# Altium integrated library Lattice MachXO.IntLib: 790 symbols (part 48 of 50)
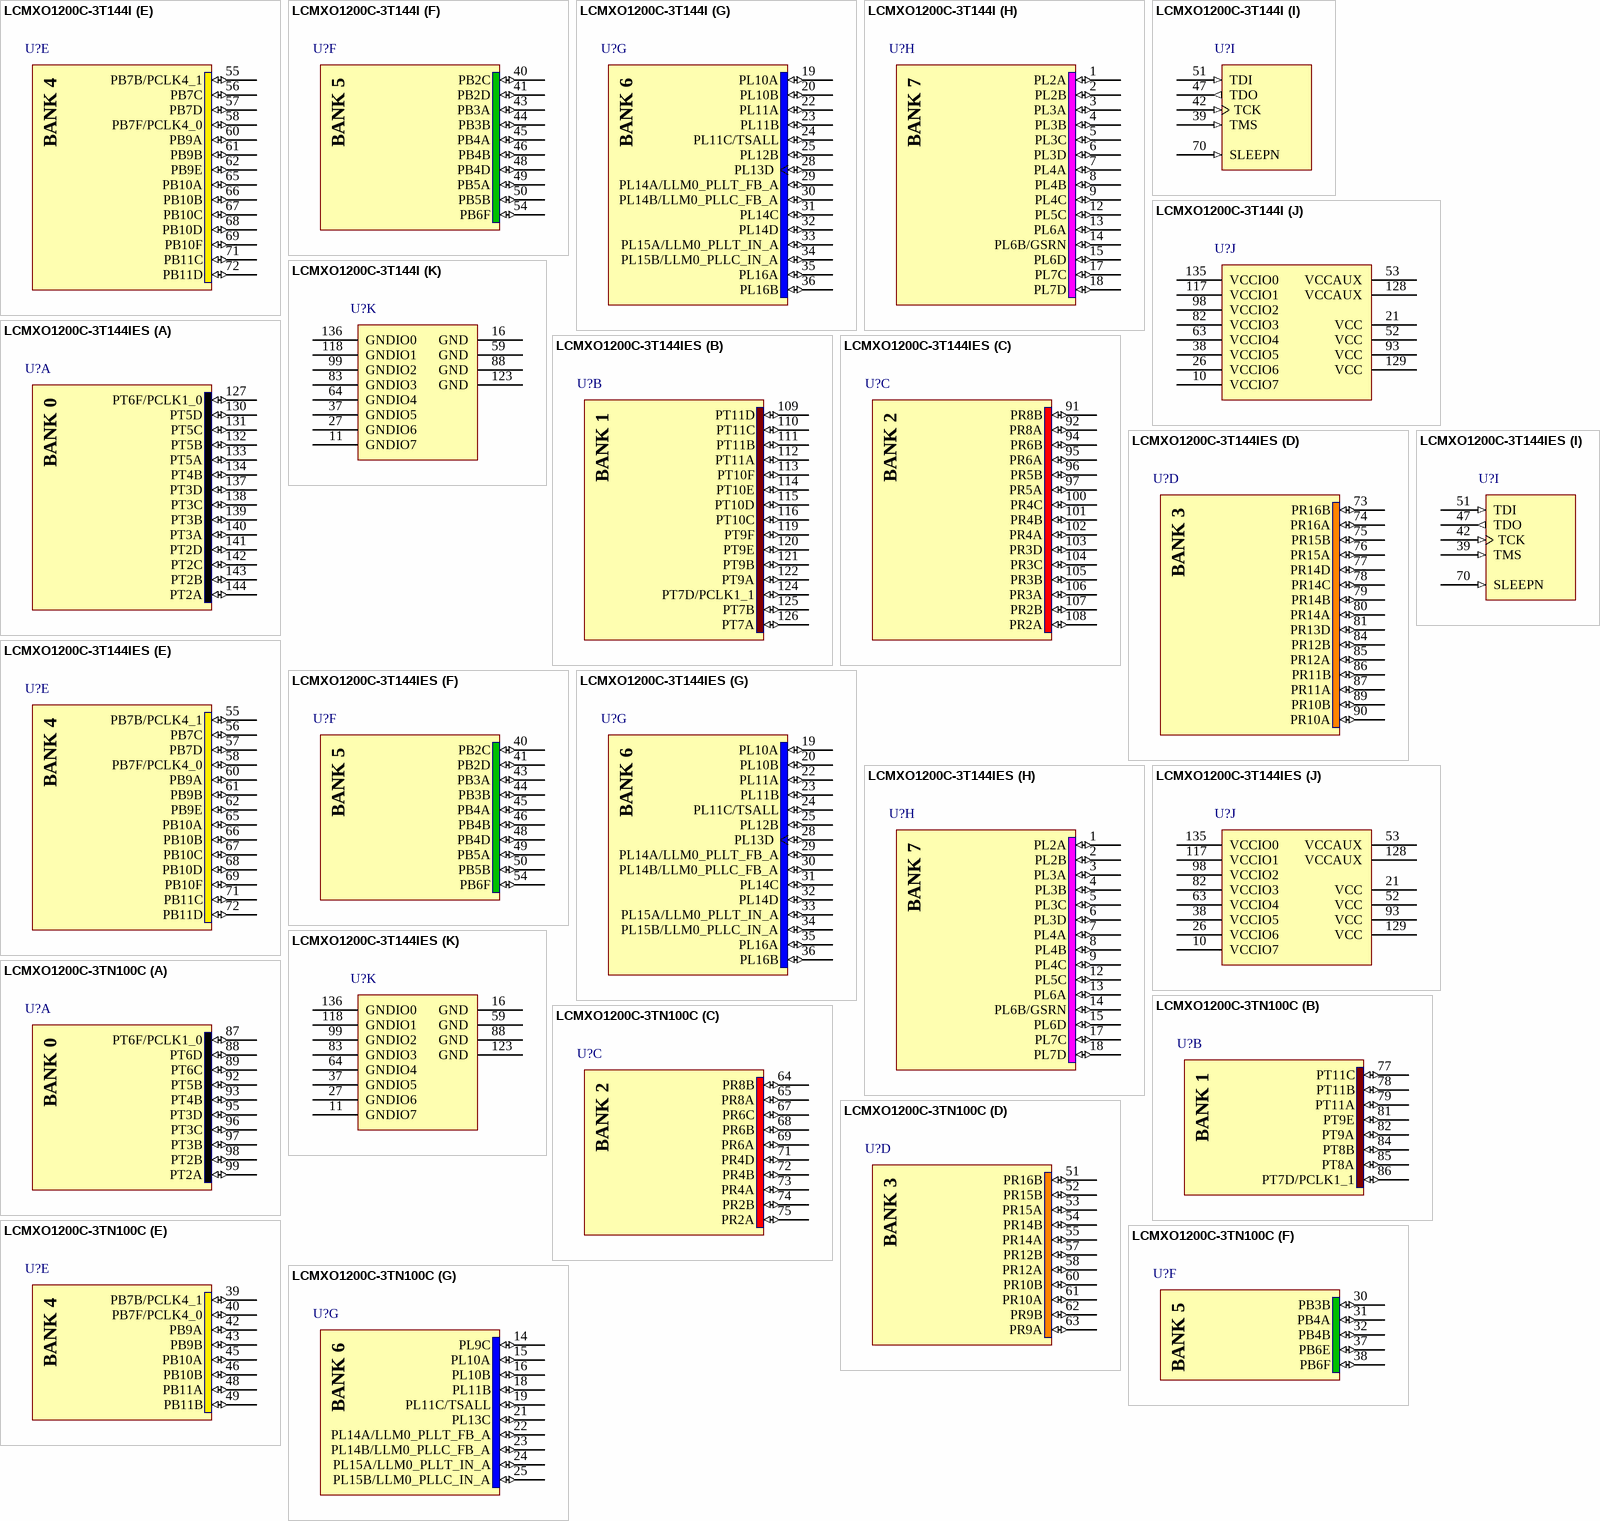
[diagram p486: symbols LCMXO1200C-3T144I to LCMXO1200C-3TN100C]

## LCMXO1200C-3T144IES
designator U?
MachXO 1200 Crossover PLD, 1.8V/2.5V/3.3V, 113 User I/Os, 144-Pins TQFP, Speed Grade-3, Industrial Grade, Engineering Sample; Published: 31-Jul-2006; DatasheetVersion: ver2.1, May-2006; PackageVersion: pkg_33, Apr-2006; PackageReference: TQFP144; Publisher: Altium Limited; PackageDescription: 144-Pin Thin Quad Flat Pack (TQFP144); Code_JEDEC: MS-026-BFB; ComponentLink1Description: Manufacturer Link; ComponentLink1URL: http://www.latticesemi.com/products/cpld/machXO/index.cfm; ComponentLink2Description: Datasheet; ComponentLink2URL: http://www.latticesemi.com/lit/docs/datasheets/cpld/machxo.pdf
footprint TQFP144_N (Thin QFP, 144-Leads, Body 20x20mm, Pitch 0.5mm, IPC Medium Density)
footprint TQFP144_L (Thin QFP, 144-Leads, Body 20x20mm, Pitch 0.5mm, IPC High Density)
footprint TQFP144_M (Thin QFP, 144-Leads, Body 20x20mm, Pitch 0.5mm, IPC Low Density)
3D model MachXO1200-TQFP144 (144-Pin Thin Quad Flat Pack (TQFP144))
signal-integrity model LCMXO1200C_T144 (MachXO)
part A pins: 127 PT6F/PCLK1_0 (io), 130 PT5D (io), 131 PT5C (io), 132 PT5B (io), 133 PT5A (io), 134 PT4B (io), 137 PT3D (io), 138 PT3C (io), 139 PT3B (io), 140 PT3A (io), 141 PT2D (io), 142 PT2C (io), 143 PT2B (io), 144 PT2A (io)
part B pins: 109 PT11D (io), 110 PT11C (io), 111 PT11B (io), 112 PT11A (io), 113 PT10F (io), 114 PT10E (io), 115 PT10D (io), 116 PT10C (io), 119 PT9F (io), 120 PT9E (io), 121 PT9B (io), 122 PT9A (io), 124 PT7D/PCLK1_1 (io), 125 PT7B (io), 126 PT7A (io)
part C pins: 91 PR8B (io), 92 PR8A (io), 94 PR6B (io), 95 PR6A (io), 96 PR5B (io), 97 PR5A (io), 100 PR4C (io), 101 PR4B (io), 102 PR4A (io), 103 PR3D (io), 104 PR3C (io), 105 PR3B (io), 106 PR3A (io), 107 PR2B (io), 108 PR2A (io)
part D pins: 73 PR16B (io), 74 PR16A (io), 75 PR15B (io), 76 PR15A (io), 77 PR14D (io), 78 PR14C (io), 79 PR14B (io), 80 PR14A (io), 81 PR13D (io), 84 PR12B (io), 85 PR12A (io), 86 PR11B (io), 87 PR11A (io), 89 PR10B (io), 90 PR10A (io)
part E pins: 55 PB7B/PCLK4_1 (io), 56 PB7C (io), 57 PB7D (io), 58 PB7F/PCLK4_0 (io), 60 PB9A (io), 61 PB9B (io), 62 PB9E (io), 65 PB10A (io), 66 PB10B (io), 67 PB10C (io), 68 PB10D (io), 69 PB10F (io), 71 PB11C (io), 72 PB11D (io)
part F pins: 40 PB2C (io), 41 PB2D (io), 43 PB3A (io), 44 PB3B (io), 45 PB4A (io), 46 PB4B (io), 48 PB4D (io), 49 PB5A (io), 50 PB5B (io), 54 PB6F (io)
part G pins: 19 PL10A (io), 20 PL10B (io), 22 PL11A (io), 23 PL11B (io), 24 PL11C/TSALL (io), 25 PL12B (io), 28 PL13D (io), 29 PL14A/LLM0_PLLT_FB_A (io), 30 PL14B/LLM0_PLLC_FB_A (io), 31 PL14C (io), 32 PL14D (io), 33 PL15A/LLM0_PLLT_IN_A (io), 34 PL15B/LLM0_PLLC_IN_A (io), 35 PL16A (io), 36 PL16B (io)
part H pins: 1 PL2A (io), 2 PL2B (io), 3 PL3A (io), 4 PL3B (io), 5 PL3C (io), 6 PL3D (io), 7 PL4A (io), 8 PL4B (io), 9 PL4C (io), 12 PL5C (io), 13 PL6A (io), 14 PL6B/GSRN (io), 15 PL6D (io), 17 PL7C (io), 18 PL7D (io)
part I pins: 39 TMS (in) "Powered by VCCIO5", 42 TCK (in) "Powered by VCCIO5", 47 TDO (out) "Powered by VCCIO5", 51 TDI (in) "Powered by VCCIO5", 70 SLEEPN (in) "Powered by VCCIO4"
part J pins: 10 VCCIO7 (power), 21 VCC (power), 26 VCCIO6 (power), 38 VCCIO5 (power), 52 VCC (power), 53 VCCAUX (power), 63 VCCIO4 (power), 82 VCCIO3 (power), 93 VCC (power), 98 VCCIO2 (power), 117 VCCIO1 (power), 128 VCCAUX (power), 129 VCC (power), 135 VCCIO0 (power)
part K pins: 11 GNDIO7 (power), 16 GND (power), 27 GNDIO6 (power), 37 GNDIO5 (power), 59 GND (power), 64 GNDIO4 (power), 83 GNDIO3 (power), 88 GND (power), 99 GNDIO2 (power), 118 GNDIO1 (power), 123 GND (power), 136 GNDIO0 (power)
part A text: BANK 0
part B text: BANK 1
part C text: BANK 2
part D text: BANK 3
part E text: BANK 4
part F text: BANK 5
part G text: BANK 6
part H text: BANK 7

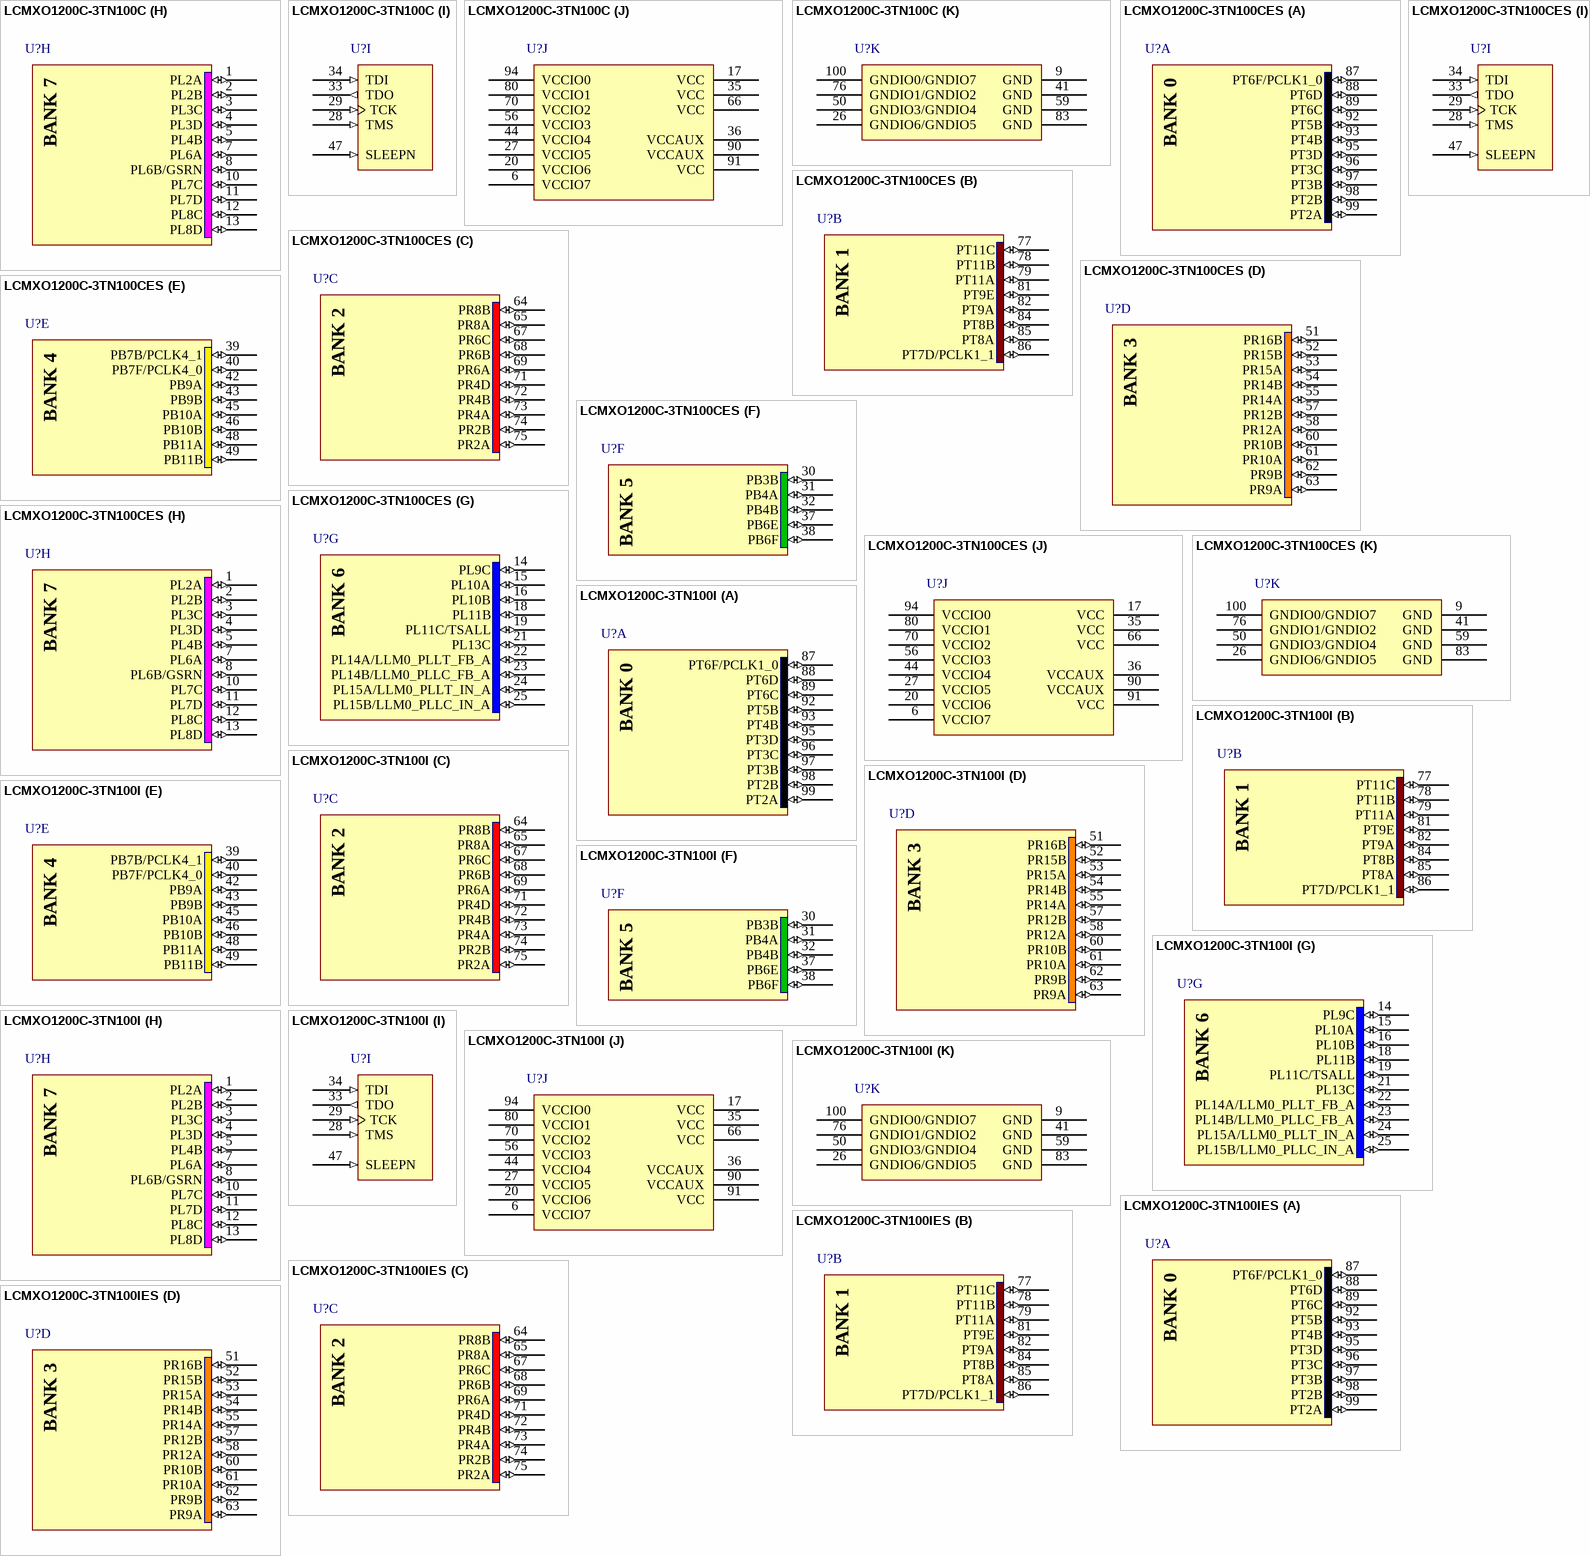
[diagram p151: symbols LCMXO1200C-3TN100C to LCMXO1200C-3TN100IES]

## LCMXO1200C-3TN100C
designator U?
MachXO 1200 Crossover PLD, 1.8V/2.5V/3.3V, 73 User I/Os, 100-Pins TQFP, Speed Grade-3, Commercial Grade, Pb-Free; Published: 13-Apr-2006; DatasheetVersion: ver2.2, Aug-2006; PackageVersion: pkg_33, Apr-2006; PackageReference: TQFP100; Publisher: Altium Limited; PackageDescription: 100-Pin Thin Quad Flat Pack (TQFP100); Code_JEDEC: MS-026-BED; ComponentLink1Description: Manufacturer Link; ComponentLink1URL: http://www.latticesemi.com/products/cpld/machXO/index.cfm; ComponentLink2Description: Datasheet; ComponentLink2URL: http://www.latticesemi.com/lit/docs/datasheets/cpld/DS1002_machxo.pdf
footprint TQFP100_N (Thin QFP, 100-Leads, Body 14x14mm, Pitch 0.5mm, IPC Medium Density)
footprint TQFP100_L (Thin QFP, 100-Leads, Body 14x14mm, Pitch 0.5mm, IPC High Density)
footprint TQFP100_M (Thin QFP, 100-Leads, Body 14x14mm, Pitch 0.5mm, IPC Low Density)
3D model MachXO1200-TQFP100 (100-Pin Thin Quad Flat Pack (TQFP100))
signal-integrity model LCMXO1200C_T100 (MachXO)
part A pins: 87 PT6F/PCLK1_0 (io), 88 PT6D (io), 89 PT6C (io), 92 PT5B (io), 93 PT4B (io), 95 PT3D (io), 96 PT3C (io), 97 PT3B (io), 98 PT2B (io), 99 PT2A (io)
part B pins: 77 PT11C (io), 78 PT11B (io), 79 PT11A (io), 81 PT9E (io), 82 PT9A (io), 84 PT8B (io), 85 PT8A (io), 86 PT7D/PCLK1_1 (io)
part C pins: 64 PR8B (io), 65 PR8A (io), 67 PR6C (io), 68 PR6B (io), 69 PR6A (io), 71 PR4D (io), 72 PR4B (io), 73 PR4A (io), 74 PR2B (io), 75 PR2A (io)
part D pins: 51 PR16B (io), 52 PR15B (io), 53 PR15A (io), 54 PR14B (io), 55 PR14A (io), 57 PR12B (io), 58 PR12A (io), 60 PR10B (io), 61 PR10A (io), 62 PR9B (io), 63 PR9A (io)
part E pins: 39 PB7B/PCLK4_1 (io), 40 PB7F/PCLK4_0 (io), 42 PB9A (io), 43 PB9B (io), 45 PB10A (io), 46 PB10B (io), 48 PB11A (io), 49 PB11B (io)
part F pins: 30 PB3B (io), 31 PB4A (io), 32 PB4B (io), 37 PB6E (io), 38 PB6F (io)
part G pins: 14 PL9C (io), 15 PL10A (io), 16 PL10B (io), 18 PL11B (io), 19 PL11C/TSALL (io), 21 PL13C (io), 22 PL14A/LLM0_PLLT_FB_A (io), 23 PL14B/LLM0_PLLC_FB_A (io), 24 PL15A/LLM0_PLLT_IN_A (io), 25 PL15B/LLM0_PLLC_IN_A (io)
part H pins: 1 PL2A (io), 2 PL2B (io), 3 PL3C (io), 4 PL3D (io), 5 PL4B (io), 7 PL6A (io), 8 PL6B/GSRN (io), 10 PL7C (io), 11 PL7D (io), 12 PL8C (io), 13 PL8D (io)
part I pins: 28 TMS (in) "Powered by VCCIO5", 29 TCK (in) "Powered by VCCIO5", 33 TDO (out) "Powered by VCCIO5", 34 TDI (in) "Powered by VCCIO5", 47 SLEEPN (in) "Powered by VCCIO5"
part J pins: 6 VCCIO7 (power), 17 VCC (power), 20 VCCIO6 (power), 27 VCCIO5 (power), 35 VCC (power), 36 VCCAUX (power), 44 VCCIO4 (power), 56 VCCIO3 (power), 66 VCC (power), 70 VCCIO2 (power), 80 VCCIO1 (power), 90 VCCAUX (power), 91 VCC (power), 94 VCCIO0 (power)
part K pins: 9 GND (power), 26 GNDIO6/GNDIO5 (power) "Double Bonded pin", 41 GND (power), 50 GNDIO3/GNDIO4 (power) "Double Bonded pin", 59 GND (power), 76 GNDIO1/GNDIO2 (power) "Double Bonded pin", 83 GND (power), 100 GNDIO0/GNDIO7 (power) "Double Bonded pin"
part A text: BANK 0
part B text: BANK 1
part C text: BANK 2
part D text: BANK 3
part E text: BANK 4
part F text: BANK 5
part G text: BANK 6
part H text: BANK 7

## LCMXO1200C-3TN100CES
designator U?
MachXO 1200 Crossover PLD, 1.8V/2.5V/3.3V, 73 User I/Os, 100-Pins TQFP, Speed Grade-3, Commercial Grade, Pb-Free, Engineering Sample; Published: 31-Jul-2006; DatasheetVersion: ver2.1, May-2006; PackageVersion: pkg_33, Apr-2006; PackageReference: TQFP100; Publisher: Altium Limited; PackageDescription: 100-Pin Thin Quad Flat Pack (TQFP100); Code_JEDEC: MS-026-BED; ComponentLink1Description: Manufacturer Link; ComponentLink1URL: http://www.latticesemi.com/products/cpld/machXO/index.cfm; ComponentLink2Description: Datasheet; ComponentLink2URL: http://www.latticesemi.com/lit/docs/datasheets/cpld/machxo.pdf
footprint TQFP100_N (Thin QFP, 100-Leads, Body 14x14mm, Pitch 0.5mm, IPC Medium Density)
footprint TQFP100_L (Thin QFP, 100-Leads, Body 14x14mm, Pitch 0.5mm, IPC High Density)
footprint TQFP100_M (Thin QFP, 100-Leads, Body 14x14mm, Pitch 0.5mm, IPC Low Density)
3D model MachXO1200-TQFP100 (100-Pin Thin Quad Flat Pack (TQFP100))
signal-integrity model LCMXO1200C_T100 (MachXO)
part A pins: 87 PT6F/PCLK1_0 (io), 88 PT6D (io), 89 PT6C (io), 92 PT5B (io), 93 PT4B (io), 95 PT3D (io), 96 PT3C (io), 97 PT3B (io), 98 PT2B (io), 99 PT2A (io)
part B pins: 77 PT11C (io), 78 PT11B (io), 79 PT11A (io), 81 PT9E (io), 82 PT9A (io), 84 PT8B (io), 85 PT8A (io), 86 PT7D/PCLK1_1 (io)
part C pins: 64 PR8B (io), 65 PR8A (io), 67 PR6C (io), 68 PR6B (io), 69 PR6A (io), 71 PR4D (io), 72 PR4B (io), 73 PR4A (io), 74 PR2B (io), 75 PR2A (io)
part D pins: 51 PR16B (io), 52 PR15B (io), 53 PR15A (io), 54 PR14B (io), 55 PR14A (io), 57 PR12B (io), 58 PR12A (io), 60 PR10B (io), 61 PR10A (io), 62 PR9B (io), 63 PR9A (io)
part E pins: 39 PB7B/PCLK4_1 (io), 40 PB7F/PCLK4_0 (io), 42 PB9A (io), 43 PB9B (io), 45 PB10A (io), 46 PB10B (io), 48 PB11A (io), 49 PB11B (io)
part F pins: 30 PB3B (io), 31 PB4A (io), 32 PB4B (io), 37 PB6E (io), 38 PB6F (io)
part G pins: 14 PL9C (io), 15 PL10A (io), 16 PL10B (io), 18 PL11B (io), 19 PL11C/TSALL (io), 21 PL13C (io), 22 PL14A/LLM0_PLLT_FB_A (io), 23 PL14B/LLM0_PLLC_FB_A (io), 24 PL15A/LLM0_PLLT_IN_A (io), 25 PL15B/LLM0_PLLC_IN_A (io)
part H pins: 1 PL2A (io), 2 PL2B (io), 3 PL3C (io), 4 PL3D (io), 5 PL4B (io), 7 PL6A (io), 8 PL6B/GSRN (io), 10 PL7C (io), 11 PL7D (io), 12 PL8C (io), 13 PL8D (io)
part I pins: 28 TMS (in) "Powered by VCCIO5", 29 TCK (in) "Powered by VCCIO5", 33 TDO (out) "Powered by VCCIO5", 34 TDI (in) "Powered by VCCIO5", 47 SLEEPN (in) "Powered by VCCIO5"
part J pins: 6 VCCIO7 (power), 17 VCC (power), 20 VCCIO6 (power), 27 VCCIO5 (power), 35 VCC (power), 36 VCCAUX (power), 44 VCCIO4 (power), 56 VCCIO3 (power), 66 VCC (power), 70 VCCIO2 (power), 80 VCCIO1 (power), 90 VCCAUX (power), 91 VCC (power), 94 VCCIO0 (power)
part K pins: 9 GND (power), 26 GNDIO6/GNDIO5 (power) "Double Bonded pin", 41 GND (power), 50 GNDIO3/GNDIO4 (power) "Double Bonded pin", 59 GND (power), 76 GNDIO1/GNDIO2 (power) "Double Bonded pin", 83 GND (power), 100 GNDIO0/GNDIO7 (power) "Double Bonded pin"
part A text: BANK 0
part B text: BANK 1
part C text: BANK 2
part D text: BANK 3
part E text: BANK 4
part F text: BANK 5
part G text: BANK 6
part H text: BANK 7